# Altium footprint library AD_lib.PcbLib: 7 footprints
Each footprint in its own frame and in the unit in brackets; x right, y up, seen from the top. Pads: shape width x height; smd on the part's side, far side on the other; paste and mask are expansions set on the pad; w line width, h text height; cw(c..) or ccw(c..) is an arc to the next point about the centre after c.
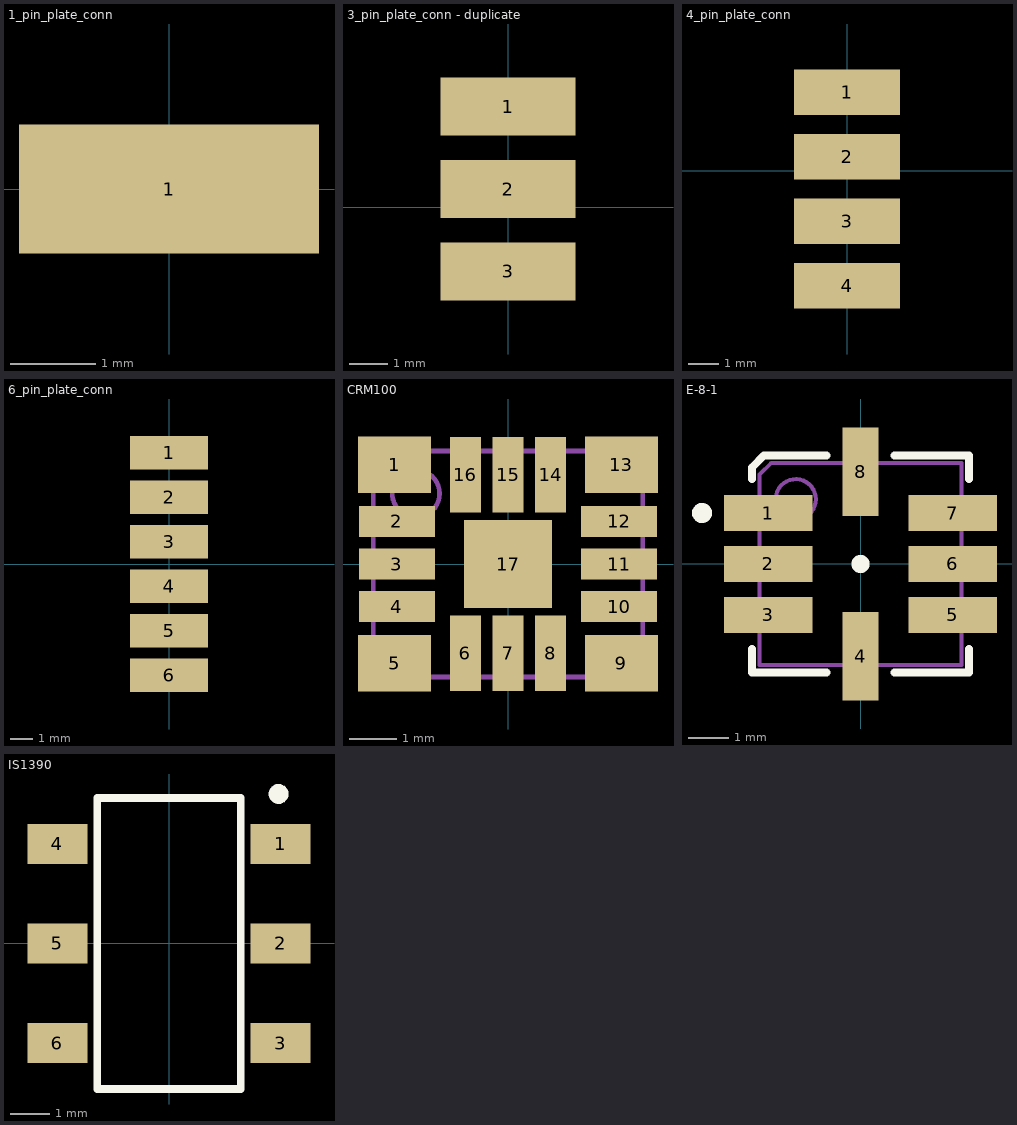
[diagram p0: the footprints below, top view; thin cyan lines are the x and y axes]

## 1_pin_plate_conn [mm]
pads (1):
  rect 3.5x1.5 smd: 1(0,0)

## 3_pin_plate_conn - duplicate [mm]
pads (3):
  rect 3.5x1.5 smd: 1(0,2.6) 2(0,0.467) 3(0,-1.667)

## 4_pin_plate_conn [mm]
pads (4):
  rect 3.5x1.5 smd: 1(0,2.6) 2(0,0.467) 3(0,-1.667) 4(0,-3.8)

## 6_pin_plate_conn [mm]
pads (6):
  rect 3.5x1.5 smd: 1(0,5) 2(0,3) 3(0,1) 4(0,-1) 5(0,-3) 6(0,-5)

## CRM100 [mm]
height 1.18
pads (17):
  rect 1.55x1.2 smd: 1(-2.4,2.1) 5(-2.4,-2.1) 9(2.4,-2.1) 13(2.4,2.1)
  rect 1.6x0.65 smd: 2(-2.35,0.9) 3(-2.35,0) 4(-2.35,-0.9) 10(2.35,-0.9) 11(2.35,0) 12(2.35,0.9)
  rect 0.65x1.6 smd: 6(-0.9,-1.89) 7(0,-1.89) 8(0.9,-1.89) 14(0.9,1.89) 15(0,1.89) 16(-0.9,1.89)
  rect 1.87x1.87 smd: 17(0,0)
Mechanical 13:
  circle w0.1: c-1.95,1.49 r0.5
  lines w0.1: -2.85,-2.39 2.85,-2.39 2.85,2.39 -2.412,2.39 -2.85,1.952 -2.85,-2.39
3D body: height 1.19, standoff 0, extent -2.85,-2.39 2.85,2.39

## E-8-1 [mm] "LCC, 8-Pins, Body 5,03x5,03mmx2,16mm, Pitch 1,27mm, IPC Low Density"
height 2.16
pads (8):
  rect 2.2x0.9 smd: 1(-2.3,1.27) 2(-2.3,0) 3(-2.3,-1.27) 5(2.3,-1.27) 6(2.3,0) 7(2.3,1.27)
  rect 0.9x2.2 smd: 4(0,-2.3) 8(0,2.3)
Top Overlay:
  circle w0.25: c-3.95,1.27 r0.125
  circle w0.254: c0,0 r0.1
  lines w0.2: -2.7,-2.12 -2.7,-2.7 -0.85,-2.7 ; -2.7,2.12 -2.7,2.41 -2.41,2.7 -0.85,2.7 ; 0.85,-2.7 2.7,-2.7 2.7,-2.12 ; 0.85,2.7 2.7,2.7 2.7,2.12
Mechanical 13:
  circle w0.1: c-1.615,1.615 r0.5
  lines w0.1: -2.515,-2.515 -2.515,2.225 -2.225,2.515 2.515,2.515 2.515,-2.515 -2.515,-2.515
3D body: height 1.93, standoff -0.01, extent -2.5,-2.512 2.504,2.492

## IS1390 [mm] "TSOP, 6-Leads, Body 7,00x3,50mm, Pitch 2,50mm, IPC Low Density"
height 1.5
pads (6):
  rect 1.5x1 smd: 1(2.8,2.5) 2(2.8,0) 3(2.8,-2.5) 4(-2.8,2.5) 5(-2.8,0) 6(-2.8,-2.5)
Top Overlay:
  circle w0.25: c2.75,3.75 r0.125
  lines w0.2: -1.8,-3.65 -1.8,3.65 1.8,3.65 1.8,-3.65 -1.8,-3.65
3D body: height 1.5, standoff 0.1, extent -1.75,-3.5 1.75,3.5